# EAGLE library part PINHEADER_2X3 (library SMD-Components_E950)
PIN HEADER
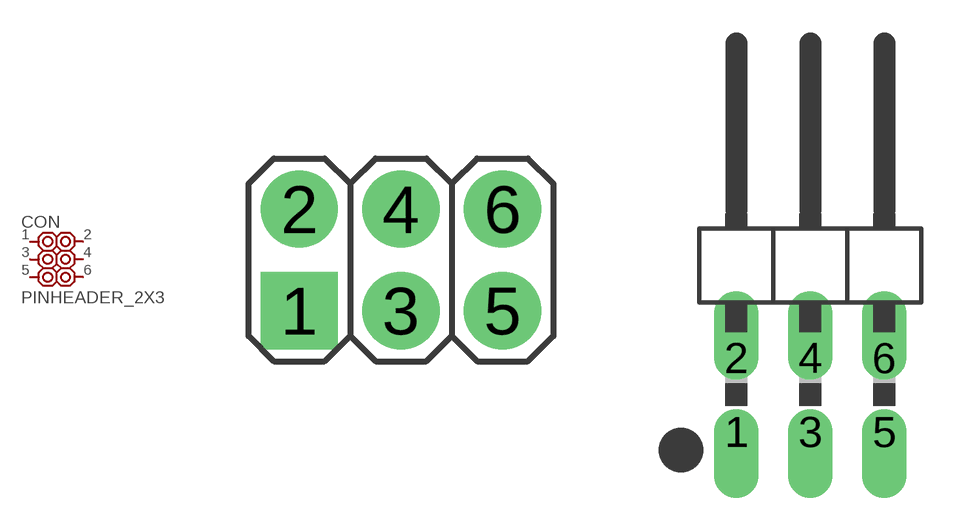
[diagram p13: symbol with the pads of PINHEADER_2X3; footprints PINHEADER_2X3, 2X03/90]

Designator prefix CON

## PINHEADER_2X3  [PINHEADER_2X3]
1  1  pas
2  2  pas
3  3  pas
4  4  pas
5  5  pas
6  6  pas

## PINHEADER_2X3/90  [2X03/90]
Pads as for PINHEADER_2X3

## PINHEADER_2X3PINHEADER_2X3_PADS  [PINHEADER_2X3_PADS]
Pads as for PINHEADER_2X3

## Footprint PINHEADER_2X3 (pad centres in mm)
PIN HEADER
drill 1.016 pad 1.93 square: 1 -2.54,-1.27
drill 1.016 pad 1.93: 2 -2.54,1.27; 3 0,-1.27; 4 0,1.27; 5 2.54,-1.27; 6 2.54,1.27

## Footprint 2X03/90 (pad centres in mm)
PIN HEADER
drill 1.016 pad 1.321 offset: 1 -2.54,-6.35; 2 -2.54,-3.81; 3 0,-6.35; 4 0,-3.81; 5 2.54,-6.35; 6 2.54,-3.81

## Footprint PINHEADER_2X3_PADS (pad centres in mm)
drill 1.016 pad 1.27 offset: 1 -2.54,-1.27; 2 -2.54,1.27; 3 0,-1.27; 4 0,1.27; 5 2.54,-1.27; 6 2.54,1.27